# EAGLE library part CD54HC283 (library Pylon)
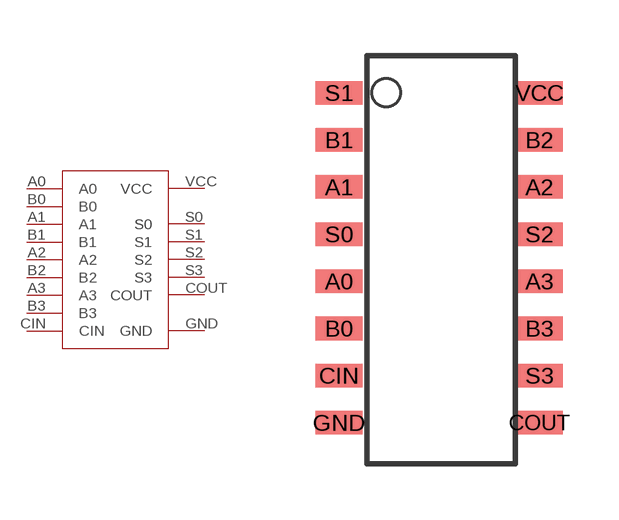
[diagram p0: symbol with the pads of CD54HC283; footprint CD54HC283]

Designator prefix -

## CD54HC283  [CD54HC283]
A0  A0
A1  A1
A2  A2
A3  A3
B0  B0
B1  B1
B2  B2
B3  B3
CIN  CIN
COUT  COUT
GND  GND
S0  S0
S1  S1
S2  S2
S3  S3
VCC  VCC

## Footprint CD54HC283 (pad centres in mm)
smd 1.27 x 0.635: A0 0,-5.08; A1 0,-2.54; A2 5.4,-2.54; A3 5.4,-5.08; B0 0,-6.35; B1 0,-1.27; B2 5.4,-1.27; B3 5.4,-6.35; CIN 0,-7.62; COUT 5.4,-8.89; GND 0,-8.89; S0 0,-3.81; S1 0,0; S2 5.4,-3.81; S3 5.4,-7.62; VCC 5.4,0